# Altium schematic symbol library Vicor_MaxiMiniMicro.SchLib: 3 symbols
Pins are listed as number, name and electrical type; pins without a type are passive.

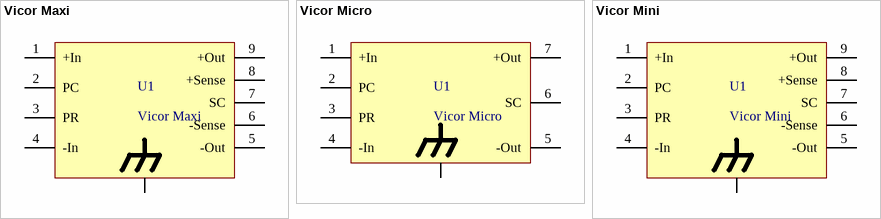
[diagram p0: symbols Vicor Maxi to Vicor Mini]

## Vicor Maxi
designator U1
footprint Vicor_Maxi
pins: 0 CHASSIS GROUND, 1 +In, 2 PC, 3 PR, 4 -In, 5 -Out, 6 -Sense, 7 SC, 8 +Sense, 9 +Out

## Vicor Micro
designator U1
footprint Vicor_Micro
pins: 0 CHASSIS GROUND, 1 +In, 2 PC, 3 PR, 4 -In, 5 -Out, 6 SC, 7 +Out

## Vicor Mini
designator U1
footprint Vicor_Mini
pins: 0 CHASSIS GROUND, 1 +In, 2 PC, 3 PR, 4 -In, 5 -Out, 6 -Sense, 7 SC, 8 +Sense, 9 +Out